# EAGLE library part INA333 (library JOSHUA)
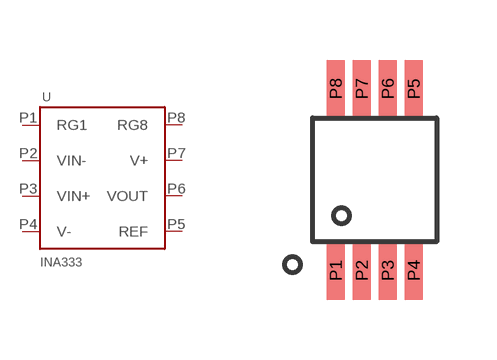
[diagram p9: symbol with the pads of VSSOP-8; footprint VSSOP-8]

Designator prefix -

## INA333AIDGKT  [VSSOP-8]
P1  RG1
P2  VIN-
P3  VIN+
P4  V-
P5  REF
P6  VOUT
P7  V+
P8  RG8

## Footprint VSSOP-8 (pad centres in mm)
smd 0.45 x 1.45: P1 -0.975,-2.275; P2 -0.325,-2.275; P3 0.325,-2.275; P4 0.975,-2.275; P5 0.975,2.275; P6 0.325,2.275; P7 -0.325,2.275; P8 -0.975,2.275